# Altium schematic symbol library Schlib1.SchLib: 4 symbols
Pins are listed as number, name and electrical type; pins without a type are passive.

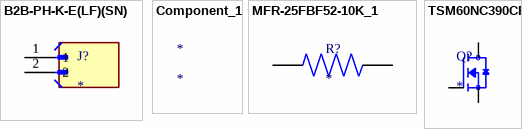
[diagram p0: symbols B2B-PH-K-E(LF)(SN) to TSM60NC390CP]

## B2B-PH-K-E(LF)(SN)
designator J?
PH Series 2 Position 2.0 mm Through Hole Shrouded Header; MF: JST; MP: B2B-PH-K-E(LF)(SN); SnapEDA_Link: https://www.snapeda.com/parts/B2B-PH-K-E(LF)(SN)/JST/view-part/?ref=snap; Package: None; Value: *; Check_prices: https://www.snapeda.com/parts/B2B-PH-K-E(LF)(SN)/JST/view-part/?ref=eda
footprint JST_B2B-PH-K-E(LF)(SN)
pins: 1, 2

## Component_1
designator *

## MFR-25FBF52-10K_1
designator R?
10.2 kOhms Â±1% 0.25W, 1/4W Through Hole Resistor Axial - Metal Film; MF: Yageo; MP: MFR-25FBF52-10K; SnapEDA_Link: https://www.snapeda.com/parts/MFR-25FBF52-10K/Yageo/view-part/?ref=snap; Availability: In Stock; Price: None; Value: *; Check_prices: https://www.snapeda.com/parts/MFR-25FBF52-10K/Yageo/view-part/?ref=eda; Purchase-URL: https://pricing.snapeda.com/search/part/MFR-25FBF52-10K/?ref=eda; Package: Axial Yageo
footprint RESAD1100W55L680D260
pins: 1, 2

## TSM60NC390CP
designator Q?
600V, 11A, Single N-Channel High Voltage MOSFETs; MF: Taiwan Semiconductor; MP: TSM60NC390CP; SnapEDA_Link: https://www.snapeda.com/parts/TSM60NC390CP/Taiwan+Semiconductor/view-part/?ref=snap; Package: TO-252-3 Taiwan Semiconductor; Value: *; Check_prices: https://www.snapeda.com/parts/TSM60NC390CP/Taiwan+Semiconductor/view-part/?ref=eda
footprint TRANS_TSM60NC390CP
pins: 1 G, 2_4 D, 3 S